# Altium schematic symbol library DS1120-96M-R13.SchLib: 1 symbol
Pins are listed as number, name and electrical type; pins without a type are passive.

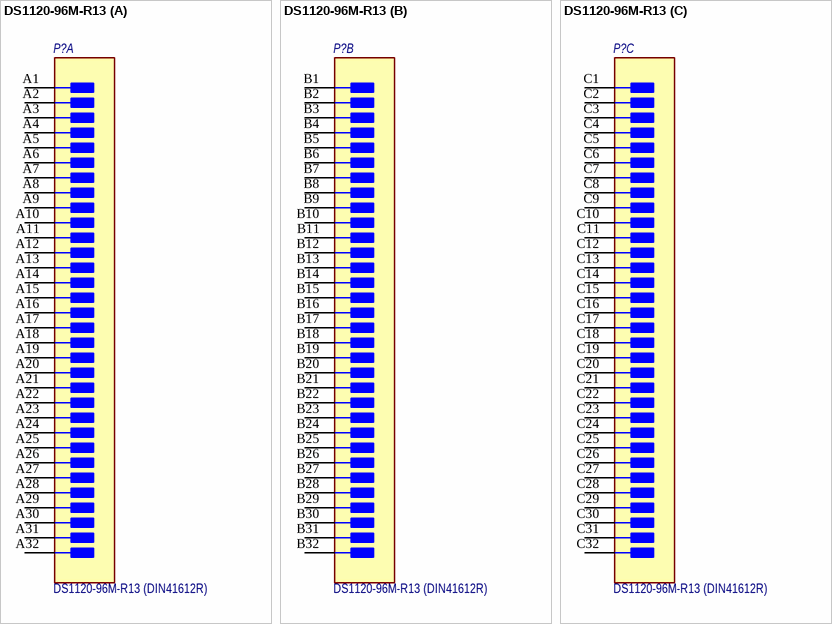
[diagram p0: symbol DS1120-96M-R13]

## DS1120-96M-R13
designator P?, comment DS1120-96M-R13 (DIN41612R)
Conn Backplane PL 96 POS 2.54mm Solder RA Thru-Hole Box; Manufacturer: TE; Manufacturer Part Number: 5650473-5; Conn Gender: Male; Number Of Contacts: 96; Current Rating: 1.5A; Conn Orientation: Right Angle; Voltage Rating: 250V; Description: Conn DIN 41612 PIN 96 POS 2.54mm Solder RA Thru-Hole; Потребление, Вт: 0.0; ComponentLink2URL: http://outer.connfly.group/static/upload/file/pdf/DS1119.pdf; RoHS: TRUE; Lead Free: Yes; Package: 5650473-5; Number Of Rows: 3; Device Class L3: unset; Contact Material: Gold,Nickel; Device Class L1: Connectors; Footprint Url: https://www.te.com/commerce/DocumentDelivery/DDEController?Action=showdoc&DocId=Customer+Drawing%7F5650473%7FC%7Fpdf%7FEnglish%7FENG_CD_5650473_C.pdf%7F5650473-5; Temperature: -55°C to +105°C; ComponentLink2Description: Datasheet; Device Class L2: Backplane Connectors; Category: Conn; Height: 11.1mm; Octopart: https://octopart.com/5650473-5-te+connectivity-39687507; Pitch: 2.54mm; Digikey Description: CONN DIN PLUG 96POS PCB RA GOLD; Mouser Description: Conn DIN 41612 PIN 96 POS 2.54mm Solder RA Thru-Hole Box; Temperature Range Low: -55°C; Automotive: No; Temperature Range High: +105°C; Назначение: Conn Backplane PL 96 POS 2.54mm Solder RA Thru-Hole Box; Наименование: DS1120-96M-R13 (DIN41612R)
footprint DS1120-96M-R13
part A pins: A1, A2, A3, A4, A5, A6, A7, A8, A9, A10, A11, A12, A13, A14, A15, A16, A17, A18, A19, A20, A21, A22, A23, A24, A25, A26, A27, A28, A29, A30, A31, A32
part B pins: B1, B2, B3, B4, B5, B6, B7, B8, B9, B10, B11, B12, B13, B14, B15, B16, B17, B18, B19, B20, B21, B22, B23, B24, B25, B26, B27, B28, B29, B30, B31, B32
part C pins: C1, C2, C3, C4, C5, C6, C7, C8, C9, C10, C11, C12, C13, C14, C15, C16, C17, C18, C19, C20, C21, C22, C23, C24, C25, C26, C27, C28, C29, C30, C31, C32